# Altium footprint library BME280SENSOR.PcbLib: 1 footprints
Each footprint in its own frame and in the unit in brackets; x right, y up, seen from the top. Pads: shape width x height; smd on the part's side, far side on the other; paste and mask are expansions set on the pad; w line width, h text height; cw(c..) or ccw(c..) is an arc to the next point about the centre after c.
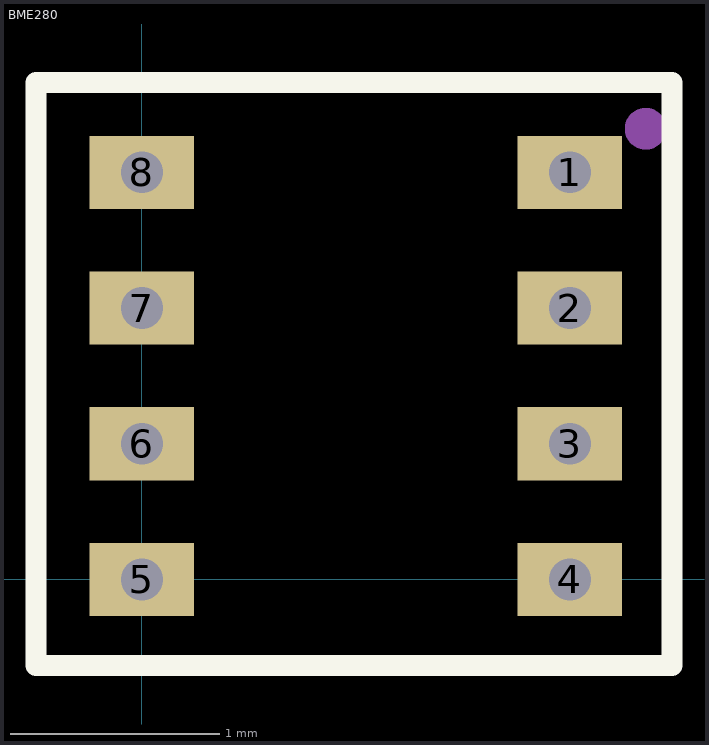
[diagram p0: the footprint, top view; thin cyan lines are the x and y axes]

## BME280 [mm]
pads (8):
  rect 0.5x0.35 hole 0.2: 1(2.05,1.95) 2(2.05,1.3) 3(2.05,0.65) 4(2.05,0) 5(0,0) 6(0,0.65) 7(0,1.3) 8(0,1.95)
Top Overlay:
  lines w0.1: -0.508,-0.413 -0.508,0.286 -0.508,1.683 -0.508,2.381 2.54,2.381 2.54,-0.413 -0.508,-0.413
Mechanical 1:
  circle w0.1: c2.413,2.159 r0.05
3D body "User Library-BME280-1.STEP": height 0.93, standoff 0, extent -0.234,-0.234 2.266,2.266